# Altium footprint library TP.PcbLib: 1 footprints
Each footprint in its own frame and in the unit in brackets; x right, y up, seen from the top. Pads: shape width x height; smd on the part's side, far side on the other; paste and mask are expansions set on the pad; w line width, h text height; cw(c..) or ccw(c..) is an arc to the next point about the centre after c.
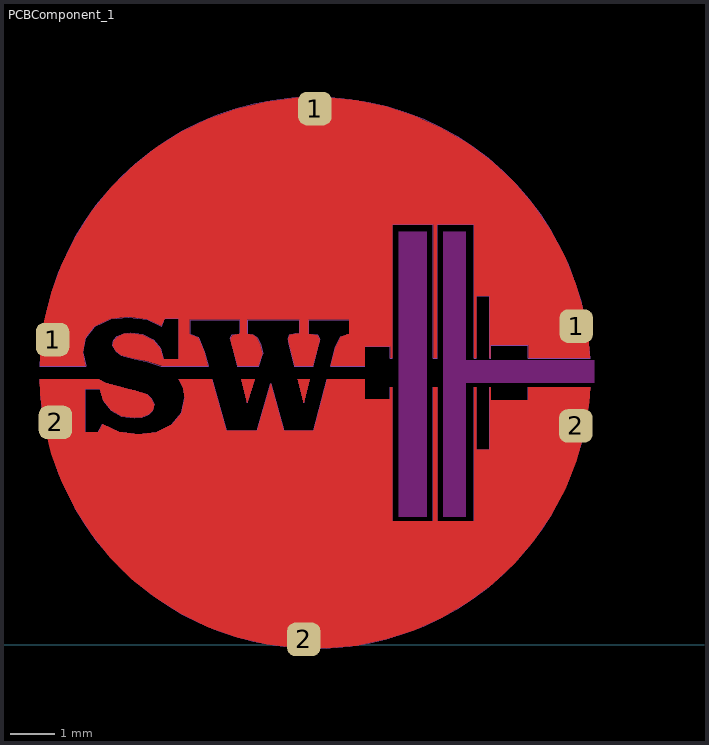
[diagram p0: the footprint, top view; thin cyan lines are the x and y axes]

## PCBComponent_1 [mil]
pads (6):
  rrect50% 30x30 smd: 1(75,273.57) 1(310,480.46) 1(544.09,285.65) 2(77.61,199.31) 2(300,5.02) 2(543.7,196.19)
Top Layer:
  region: 260 vertices and 0 holes, not listed, extent 63.76,250 556.16,490.42
  region: 103.81,190.41 115.85,190.42 119.83,197.68 134.19,191.2 151.96,188.78 167.8,190.63 182.08,197.58 190.5,208.05 193.19,221.23 192.03,230.11 188.15,237.92 217.72,237.92 230.49,191.82 258.12,191.84 270.26,234.2 282.19,191.86 308.73,191.88 320.86,237.92 354.84,237.92 354.84,220.21 377.46,220.21 377.46,230.75 379.39,230.75 379.39,110.96 416,110.96 416,230.75 419.48,230.75 419.48,110.96 452.62,110.96 452.62,230.75 454.71,230.75 454.71,174.93 466.52,174.93 466.52,230.75 467.31,230.75 467.31,219.01 501.05,219.01 501.05,230.75 556.44,230.75 555.73,217.26 551.35,190.59 544.09,164.55 534.03,139.47 521.3,115.63 506.03,93.33 488.42,72.83 468.67,54.37 447.03,38.19 423.74,24.46 399.1,13.36 373.4,5.02 346.93,-0.47 320.03,-3.03 293,-2.63 266.18,0.71 239.89,6.96 214.43,16.05 190.13,27.86 167.25,42.26 146.09,59.07 126.89,78.09 109.88,99.09 95.27,121.83 83.23,146.03 73.9,171.39 67.4,197.63 63.81,224.41 63.49,237.92 116.24,237.92 122.16,235.09 143.73,229.02 148.16,228.01 159.45,224.42 163.31,220.53 166.01,215.26 164.78,210.27 161.23,206.56 154.88,203.99 148.03,203.35 137.04,205.03 127.36,210.48 120.46,219.06 117.12,229.58 103.78,229.57
  region: 243.79,237.92 255.94,237.92 249.47,216.92
  region: 299.79,216.96 294.55,237.92 305.29,237.92
Top Solder:
  drawing of 4 lines, arcs and shapes, not listed
Keep-Out Layer:
  region: 630,310
  region: 425,370 445,370 445,115 425,115
  region: 385,370 410,370 410,115 385,115
  region: 560,235 560,255 440,255 440,235
  region: 545,235
Mechanical 1:
  drawing of 153 lines, arcs and shapes, not listed